# Altium footprint library Header.PcbLib: 6 footprints
Each footprint in its own frame and in the unit in brackets; x right, y up, seen from the top. Pads: shape width x height; smd on the part's side, far side on the other; paste and mask are expansions set on the pad; w line width, h text height; cw(c..) or ccw(c..) is an arc to the next point about the centre after c.
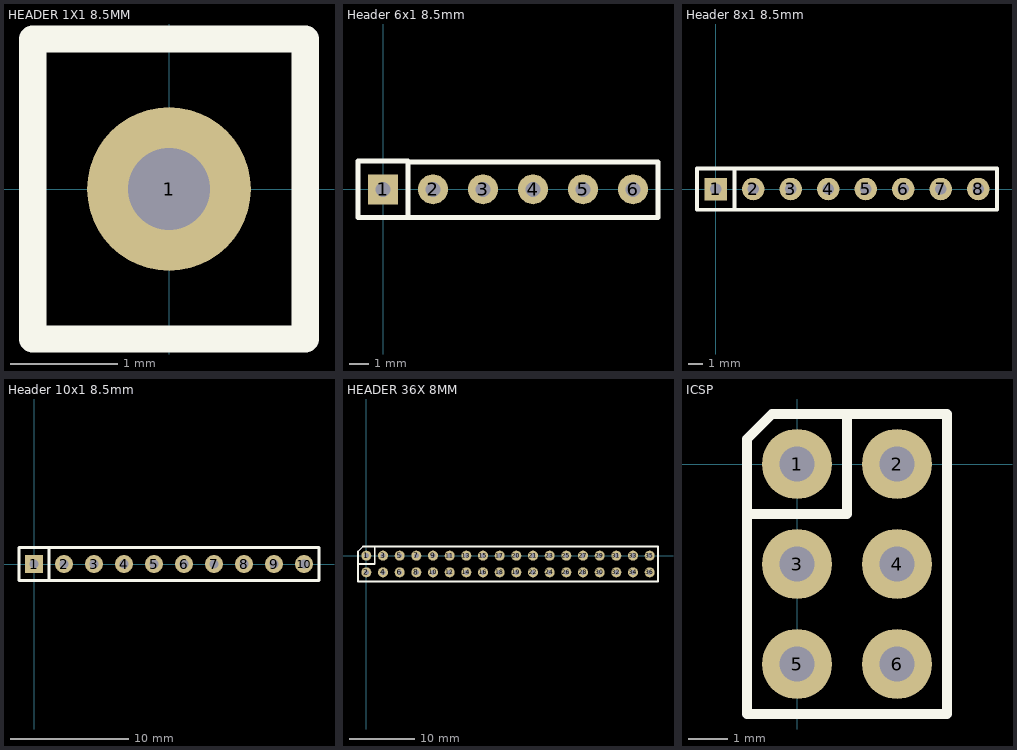
[diagram p0: the footprints below, top view; thin cyan lines are the x and y axes]

## HEADER 1X1 8.5MM [mil] "Stackable 1 pin header"
pads (1):
  round 60 hole 30: 1(0,0)
Top Overlay:
  lines w10: -50,-55 -50,55 50,55 50,-55 -50,-55
3D body "PinHead1.STEP": height 335, standoff -145, extent -50,-57.48 50,57.48

## Header 6x1 8.5mm [mil] "Stackable 6 pin header"
pads (6):
  rect 60x60 hole 30: 1(0,0)
  round 60 hole 30: 2(100,0) 3(200,0) 4(300,0) 5(400,0) 6(500,0)
Top Overlay:
  lines w10: 50,57 -50,57 -50,0 -50,-56 50,-56 ; 50,-56 550,-56 550,55 50,55 50,-56
3D body "User Library-Pin Header Strip.STEP": height 128, standoff -352, extent -50,-57.48 150,57.48
3D body "User Library-Pin Header Strip.STEP": height 128, standoff -352, extent 150,-57.48 350,57.48
3D body "User Library-Pin Header Strip.STEP": height 128, standoff -352, extent 350,-57.48 550,57.48

## Header 8x1 8.5mm [mil] "Stackable 8 pin header"
pads (8):
  rect 60x60 hole 30: 1(0,0)
  round 60 hole 30: 2(100,0) 3(200,0) 4(300,0) 5(400,0) 6(500,0) 7(600,0) 8(700,0)
Top Overlay:
  lines w10: 50,-50 50,50 ; -50,-55 -50,55 750,55 750,-55 -50,-55
3D body "User Library-Pin Header Strip.STEP": height 128, standoff -352, extent -50,-57.48 150,57.48
3D body "User Library-Pin Header Strip.STEP": height 128, standoff -352, extent 150,-57.48 350,57.48
3D body "User Library-Pin Header Strip.STEP": height 128, standoff -352, extent 350,-57.48 550,57.48
3D body "User Library-Pin Header Strip.STEP": height 128, standoff -352, extent 550,-57.48 750,57.48

## Header 10x1 8.5mm [mil] "Stackable 10 pin header"
pads (10):
  rect 60x60 hole 30: 1(0,0)
  round 60 hole 30: 2(100,0) 3(200,0) 4(300,0) 5(400,0) 6(500,0) 7(600,0) 8(700,0) 9(800,0) 10(900,0)
Top Overlay:
  lines w10: 50,-55 50,55 ; 50,-55 950,-55 950,55 50,55 ; 50,-55 -50,-55 -50,55 50,55
3D body "User Library-Pin Header Strip.STEP": height 128, standoff -352, extent -50,-57.48 150,57.48
3D body "User Library-Pin Header Strip.STEP": height 128, standoff -352, extent 150,-57.48 350,57.48
3D body "User Library-Pin Header Strip.STEP": height 128, standoff -352, extent 350,-57.48 550,57.48
3D body "User Library-Pin Header Strip.STEP": height 128, standoff -352, extent 550,-57.48 750,57.48
3D body "User Library-Pin Header Strip.STEP": height 128, standoff -352, extent 750,-57.48 950,57.48

## HEADER 36X 8MM [mil] "Stackable 10 pin header"
pads (36):
  round 60 hole 30: 1(0,0) 2(0,-100) 3(100,0) 4(100,-100) 5(200,0) 6(200,-100) 7(300,0) 8(300,-100) 9(400,0) 10(400,-100) 11(500,0) 12(500,-100) 13(600,0) 14(600,-100) 15(700,0) 16(700,-100) 17(800,0) 18(800,-100) 19(900,-100) 20(900,0) 21(1000,0) 22(1000,-100) 23(1100,0) 24(1100,-100) 25(1200,0) 26(1200,-100) 27(1300,0) 28(1300,-100) 29(1400,0) 30(1400,-100) 31(1500,0) 32(1500,-100) 33(1600,0) 34(1600,-100) 35(1700,0) 36(1700,-100)
Top Overlay:
  lines w10: -50,-50 50,-50 50,50 ; -50,-155 1750,-155 1750,55 -20,55 -50,25 -50,-155
3D body "User Library-Pin Header Strip.STEP": height 128, standoff -352, extent 1550,-157.48 1750,-42.52
3D body "User Library-Pin Header Strip.STEP": height 128, standoff -352, extent 1350,-157.48 1550,-42.52
3D body "User Library-Pin Header Strip.STEP": height 128, standoff -352, extent 1150,-157.48 1350,-42.52
3D body "User Library-Pin Header Strip.STEP": height 128, standoff -352, extent 950,-157.48 1150,-42.52
3D body "User Library-Pin Header Strip.STEP": height 128, standoff -352, extent 750,-157.48 950,-42.52
3D body "User Library-Pin Header Strip.STEP": height 128, standoff -352, extent 550,-157.48 750,-42.52
3D body "User Library-Pin Header Strip.STEP": height 128, standoff -352, extent 350,-157.48 550,-42.52
3D body "User Library-Pin Header Strip.STEP": height 128, standoff -352, extent 150,-157.48 350,-42.52
3D body "User Library-Pin Header Strip.STEP": height 128, standoff -352, extent -50,-57.48 150,57.48
3D body "User Library-Pin Header Strip.STEP": height 128, standoff -352, extent 150,-57.48 350,57.48
3D body "User Library-Pin Header Strip.STEP": height 128, standoff -352, extent 350,-57.48 550,57.48
3D body "User Library-Pin Header Strip.STEP": height 128, standoff -352, extent 550,-57.48 750,57.48
3D body "User Library-Pin Header Strip.STEP": height 128, standoff -352, extent 750,-57.48 950,57.48
3D body "User Library-Pin Header Strip.STEP": height 128, standoff -352, extent 950,-57.48 1150,57.48
3D body "User Library-Pin Header Strip.STEP": height 128, standoff -352, extent 1150,-57.48 1350,57.48
3D body "User Library-Pin Header Strip.STEP": height 128, standoff -352, extent 1350,-57.48 1550,57.48
3D body "User Library-Pin Header Strip.STEP": height 128, standoff -352, extent 1550,-57.48 1750,57.48
3D body "User Library-Pin Header Strip.STEP": height 128, standoff -352, extent -50,-157.48 150,-42.52

## ICSP [mil]
pads (6):
  round 70 hole 35.43: 1(0,0) 2(100,0) 3(0,-100) 4(100,-100) 5(0,-200) 6(100,-200)
Top Overlay:
  lines w10: -50,-50 50,-50 50,50 ; -50,-250 -50,25 -25,50 150,50 150,-250 -50,-250
3D body "ICSP.stp": height 484.65, standoff -105.84, extent -42,-258 158,42